# Altium footprint library Supernova Power.PcbLib: 51 footprints (part 3 of 4)
Each footprint in its own frame and in the unit in brackets; x right, y up, seen from the top. Pads: shape width x height; smd on the part's side, far side on the other; paste and mask are expansions set on the pad; w line width, h text height; cw(c..) or ccw(c..) is an arc to the next point about the centre after c.
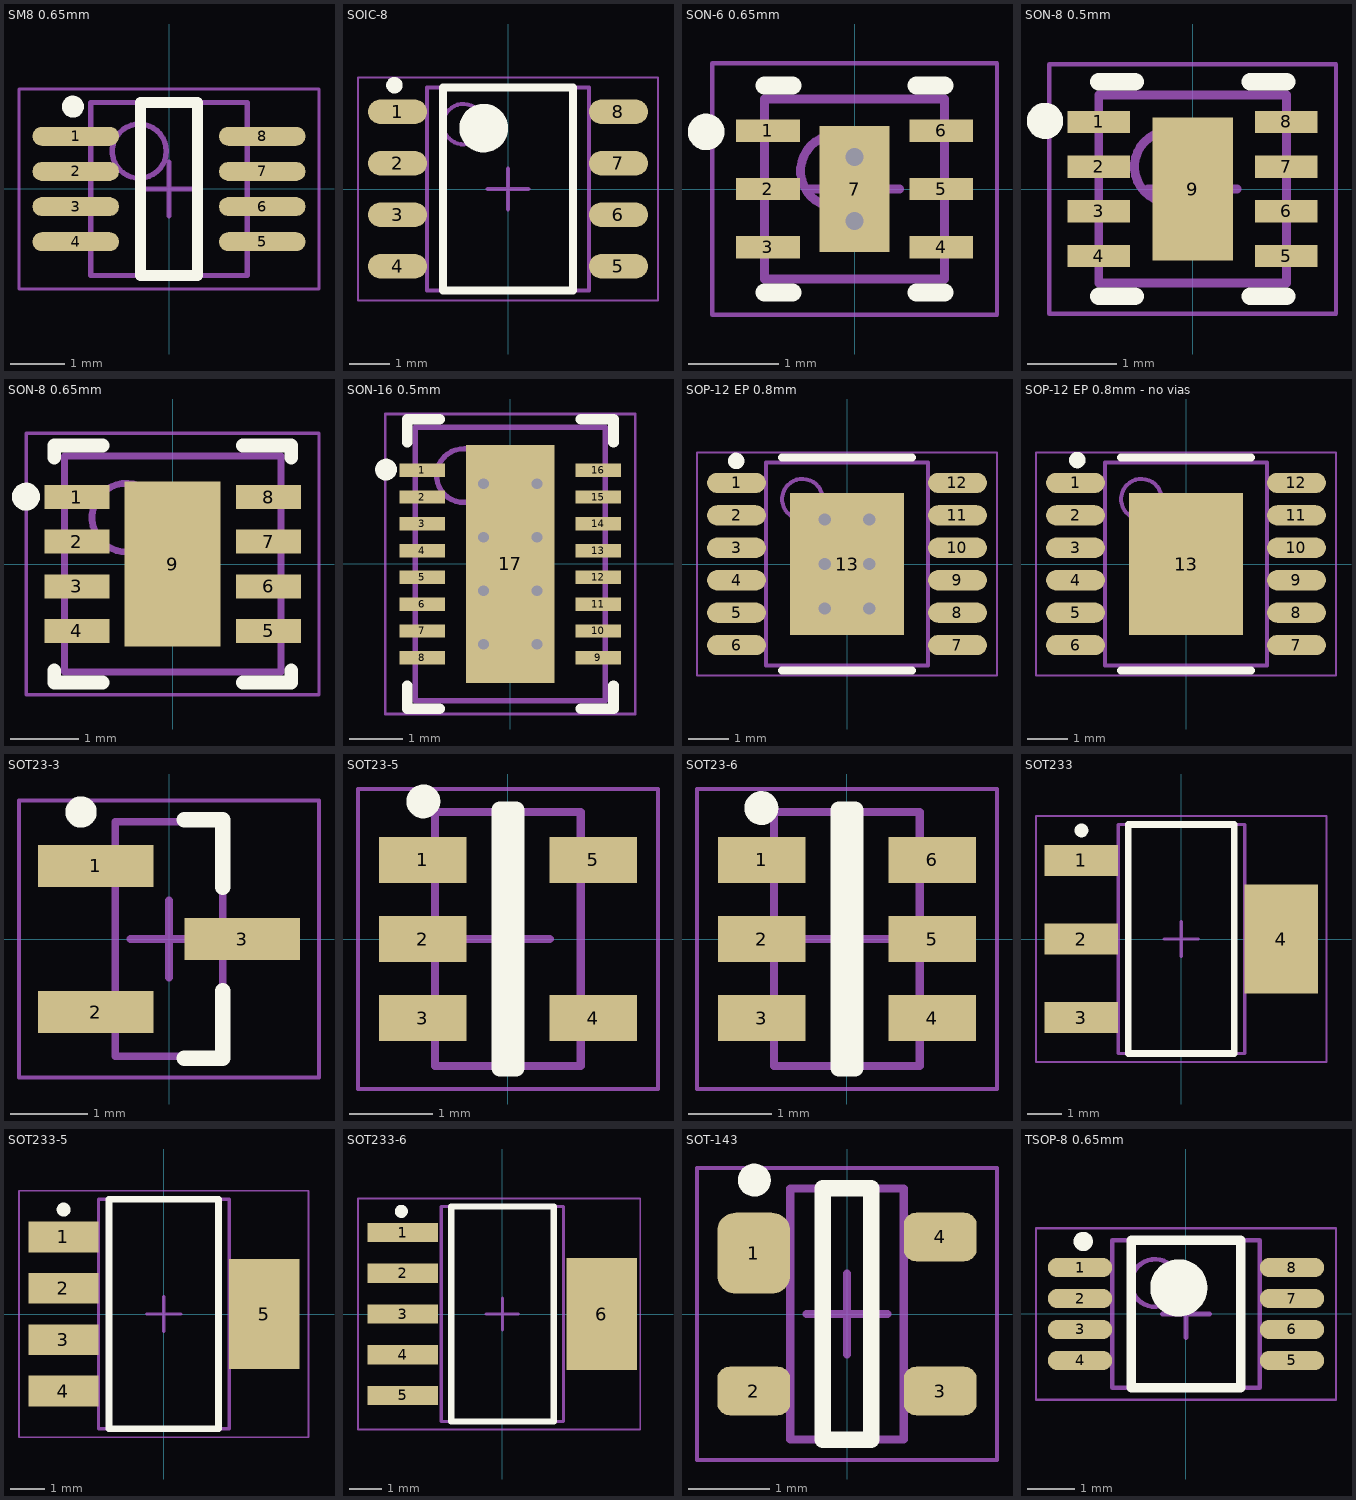
[diagram p2: the footprints below, top view; thin cyan lines are the x and y axes]

## SM8 0.65mm [mm] "TSOP, 8-Leads, Body 2.95x2.80mm, Pitch 0.65mm, IPC Medium Density"
height 1.3
pads (8):
  oval 1.6x0.35 smd mask+0.013: 1(-1.725,0.975) 2(-1.725,0.325) 3(-1.725,-0.325) 4(-1.725,-0.975) 5(1.725,-0.975) 6(1.725,-0.325) 7(1.725,0.325) 8(1.725,0.975)
Top Overlay:
  circle w0.203: c-1.778,1.524 r0.102
  lines w0.2: -0.525,-1.6 -0.525,1.6 0.525,1.6 0.525,-1.6 -0.525,-1.6
Top 3D Body (Mech13):
  circle w0.1: c-0.55,0.7 r0.5
  lines w0.1: -1.45,-1.6 -1.45,1.6 1.45,1.6 1.45,-1.6 -1.45,-1.6
Top Courtyard:
  lines w0.05: -2.775,-1.85 -2.775,1.85 2.775,1.85 2.775,-1.85 -2.775,-1.85
  lines w0.1: -0.5,0 0.5,0 ; 0,-0.5 0,0.5
3D body: height 0.2, standoff 0, extent -2.032,0.147 2.032,0.484
3D body: height 0.2, standoff 0, extent -2.032,-0.484 2.032,-0.147
3D body: height 0.2, standoff 0, extent -2.032,-1.135 2.032,-0.797
3D body: height 0.2, standoff 0, extent -2.032,0.797 2.032,1.134
3D body: height 1.3, standoff 0, extent -1.45,-1.6 1.45,1.6

## SOIC-8 [mm] "SOIC, 8-Leads, Body 4.90x3.90mm, Pitch 1.27mm, IPC Medium Density"
height 1.75
pads (8):
  oval 1.45x0.6 smd: 1(-2.725,1.905) 2(-2.725,0.635) 3(-2.725,-0.635) 4(-2.725,-1.905) 5(2.725,-1.905) 6(2.725,-0.635) 7(2.725,0.635) 8(2.725,1.905)
Top Overlay:
  circle w0.203: c-2.801,2.56 r0.102
  circle w0.6: c-0.6,1.5 r0.3
  lines w0.2: -1.6,-2.5 1.6,-2.5 1.6,2.5 -1.6,2.5 -1.6,-2.5
Top 3D Body (Mech13):
  circle w0.1: c-1.1,1.6 r0.5
  lines w0.1: -2,-2.5 2,-2.5 2,2.5 -2,2.5 -2,-2.5
Top Courtyard:
  lines w0.05: -3.7,-2.75 3.7,-2.75 3.7,2.75 -3.7,2.75 -3.7,-2.75
  lines w0.1: -0.5,0 0.5,0 ; 0,-0.5 0,0.5
3D body: height 1.75, standoff 0.1, extent -2,-2.5 2,2.5
3D body: height 0.2, standoff 0, extent -3,1.725 3,2.1
3D body: height 0.2, standoff 0, extent -3,0.45 3,0.825
3D body: height 0.2, standoff 0, extent -3,-0.825 3,-0.45
3D body: height 0.2, standoff 0, extent -3,-2.1 3,-1.725

## SON-6 0.65mm [mm] "SON, 6-Leads, Body 2.00x2.00mm, Pitch 0.65mm, Thermal Pad 1.40x0.78mm, IPC Medium Density"
height 0.9
pads (7):
  rect 0.711x0.25 smd mask+0.025: 1(-0.965,0.65) 2(-0.965,0) 3(-0.965,-0.65) 4(0.965,-0.65) 5(0.965,0) 6(0.965,0.65)
  rect 0.78x1.4 smd paste-0.39 mask+0.025: 7(0,0)
via 0,0.356 diameter 0.5 hole 0.2
via 0,-0.356 diameter 0.5 hole 0.2
Top Overlay:
  circle w0.203: c-1.651,0.635 r0.102
  lines w0.2: -1,-1.15 -0.69,-1.15 ; -1,1.15 -0.69,1.15 ; 0.69,-1.15 1,-1.15 ; 0.69,1.15 1,1.15
Top 3D Body (Mech13):
  circle w0.1: c-0.2,0.2 r0.4
  lines w0.1: -1,-1 -1,1 1,1 1,-1 -1,-1
Top Courtyard:
  lines w0.05: -1.585,-1.397 -1.585,1.397 1.585,1.397 1.585,-1.397 -1.585,-1.397
  lines w0.1: -0.5,0 0.5,0 ; 0,-0.5 0,0.5
3D body: height 0.9, standoff 0, extent -1,-1 1,1

## SON-8 0.5mm [mm] "SON, 8-Leads, Body 2.00x2.00mm, Pitch 0.50mm, Thermal Pad 1.60x0.69mm, IPC Medium Density"
height 0.8
pads (9):
  rect 0.7x0.25 smd mask+0.025: 1(-1.05,0.75) 2(-1.05,0.25) 3(-1.05,-0.25) 4(-1.05,-0.75) 5(1.05,-0.75) 6(1.05,-0.25) 7(1.05,0.25) 8(1.05,0.75)
  rect 0.9x1.6 smd mask+0.025: 9(0,0)
Top Overlay:
  circle w0.203: c-1.651,0.762 r0.102
  lines w0.2: -1.05,-1.2 -0.645,-1.2 ; -1.05,1.2 -0.645,1.2 ; 0.645,-1.2 1.05,-1.2 ; 0.645,1.2 1.05,1.2
Top 3D Body (Mech13):
  circle w0.1: c-0.25,0.25 r0.4
  lines w0.1: -1.05,-1.05 -1.05,1.05 1.05,1.05 1.05,-1.05 -1.05,-1.05
Top Courtyard:
  lines w0.05: -1.605,-1.397 -1.605,1.397 1.605,1.397 1.605,-1.397 -1.605,-1.397
  lines w0.1: -0.5,0 0.5,0 ; 0,-0.5 0,0.5
3D body: height 0.8, standoff 0, extent -1.05,-1.05 1.05,1.05

## SON-8 0.65mm [mm] "SON, 8-Leads, Body 3.00x3.00mm, Pitch 0.65mm, Thermal Pad 2.40x1.44mm, IPC Medium Density"
height 1
pads (9):
  rect 0.95x0.35 smd mask+0.013: 1(-1.395,0.975) 2(-1.395,0.325) 3(-1.395,-0.325) 4(-1.395,-0.975) 5(1.395,-0.975) 6(1.395,-0.325) 7(1.395,0.325) 8(1.395,0.975)
  rect 1.397x2.4 smd paste-2 mask+0.013: 9(0,0)
Top Overlay:
  circle w0.203: c-2.137,0.981 r0.102
  lines w0.2: -1.725,-1.55 -1.725,-1.725 -1.02,-1.725 ; -1.725,1.55 -1.725,1.725 -1.02,1.725 ; 1.02,-1.725 1.725,-1.725 1.725,-1.55 ; 1.02,1.725 1.725,1.725 1.725,1.55
Top Paste:
  region: -0.1,-0.125 -0.675,-0.125 -0.675,-1.125 -0.1,-1.125
  rectangle: 0.1,0.125 0.675,1.125
  region: -0.1,1.125 -0.675,1.125 -0.675,0.125 -0.1,0.125
  rectangle: 0.1,-1.125 0.675,-0.125
Top 3D Body (Mech13):
  circle w0.1: c-0.675,0.675 r0.5
  lines w0.1: -1.575,-1.575 -1.575,1.575 1.575,1.575 1.575,-1.575 -1.575,-1.575
Top Courtyard:
  lines w0.05: -2.13,-1.905 -2.13,1.905 2.13,1.905 2.13,-1.905 -2.13,-1.905
  lines w0.1: -0.5,0 0.5,0 ; 0,-0.5 0,0.5
3D body: height 1, standoff 0.1, extent -1.575,-1.575 1.575,1.575

## SON-16 0.5mm [mm] "SON, 16-Leads, Body 5.00x3.50mm, Pitch 0.50mm, Thermal Pad 4.45x1.65mm, IPC Medium Density"
height 0.8
pads (17):
  rect 0.85x0.25 smd mask+0.025: 1(-1.645,1.75) 2(-1.645,1.25) 3(-1.645,0.75) 4(-1.645,0.25) 5(-1.645,-0.25) 6(-1.645,-0.75) 7(-1.645,-1.25) 8(-1.645,-1.75) 9(1.645,-1.75) 10(1.645,-1.25) 11(1.645,-0.75) 12(1.645,-0.25) 13(1.645,0.25) 14(1.645,0.75) 15(1.645,1.25) 16(1.645,1.75)
  rect 1.65x4.45 smd: 17(0,0)
via -0.5,1.5 diameter 0.5 hole 0.2
via 0.5,1.5 diameter 0.5 hole 0.2
via -0.5,0.5 diameter 0.5 hole 0.2
via 0.5,0.5 diameter 0.5 hole 0.2
via -0.5,-0.5 diameter 0.5 hole 0.2
via 0.5,-0.5 diameter 0.5 hole 0.2
via -0.5,-1.5 diameter 0.5 hole 0.2
via 0.5,-1.5 diameter 0.5 hole 0.2
Top Overlay:
  circle w0.203: c-2.32,1.762 r0.102
  lines w0.2: -1.925,-2.275 -1.925,-2.7 -1.32,-2.7 ; -1.925,2.275 -1.925,2.7 -1.32,2.7 ; 1.32,-2.7 1.925,-2.7 1.925,-2.275 ; 1.32,2.7 1.925,2.7 1.925,2.275
Top 3D Body (Mech13):
  circle w0.1: c-0.875,1.65 r0.5
  lines w0.1: -1.775,-2.55 -1.775,2.55 1.775,2.55 1.775,-2.55 -1.775,-2.55
Top Courtyard:
  lines w0.05: -2.335,-2.8 -2.335,2.8 2.335,2.8 2.335,-2.8 -2.335,-2.8
  lines w0.1: -0.5,0 0.5,0 ; 0,-0.5 0,0.5
3D body: height 0.8, standoff 0, extent -1.775,-2.55 1.775,2.55

## SOP-12 EP 0.8mm [mm] "SOP, 12-Leads, Body 4.90x3.90mm, Pitch 0.80mm, Thermal Pad 3.50x2.80mm, IPC Medium Density"
height 1.7
pads (13):
  oval 1.45x0.5 smd mask+0.025: 1(-2.725,2) 2(-2.725,1.2) 3(-2.725,0.4) 4(-2.725,-0.4) 5(-2.725,-1.2) 6(-2.725,-2) 7(2.725,-2) 8(2.725,-1.2) 9(2.725,-0.4) 10(2.725,0.4) 11(2.725,1.2) 12(2.725,2)
  rect 2.8x3.5 smd: 13(0,0)
via -0.55,1.1 diameter 0.5 hole 0.3
via 0.55,1.1 diameter 0.5 hole 0.3
via -0.55,0 diameter 0.5 hole 0.3
via 0.55,0 diameter 0.5 hole 0.3
via -0.55,-1.1 diameter 0.5 hole 0.3
via 0.55,-1.1 diameter 0.5 hole 0.3
Top Overlay:
  circle w0.203: c-2.734,2.542 r0.102
  lines w0.2: -1.6,-2.627 1.6,-2.627 ; -1.6,2.627 1.6,2.627
Top 3D Body (Mech13):
  circle w0.1: c-1.1,1.6 r0.5
  lines w0.1: -2,-2.5 -2,2.5 2,2.5 2,-2.5 -2,-2.5
Top Courtyard:
  lines w0.05: -3.7,-2.75 -3.7,2.75 3.7,2.75 3.7,-2.75 -3.7,-2.75
  lines w0.1: -0.5,0 0.5,0 ; 0,-0.5 0,0.5
3D body: height 0.38, standoff 0, extent -3.048,-2.146 3.048,-1.841
3D body: height 0.38, standoff 0, extent -3.048,-1.346 3.048,-1.041
3D body: height 0.38, standoff 0, extent -3.048,-0.546 3.048,-0.241
3D body: height 0.38, standoff 0, extent -3.048,0.254 3.048,0.559
3D body: height 0.38, standoff 0, extent -3.048,1.054 3.048,1.359
3D body: height 1.7, standoff 0, extent -2,-2.5 2,2.5
3D body: height 0.38, standoff 0, extent -3.048,1.854 3.048,2.159

## SOP-12 EP 0.8mm - no vias [mm] "SOP, 12-Leads, Body 4.90x3.90mm, Pitch 0.80mm, Thermal Pad 3.50x2.80mm, IPC Medium Density"
height 1.7
pads (13):
  oval 1.45x0.5 smd mask+0.025: 1(-2.725,2) 2(-2.725,1.2) 3(-2.725,0.4) 4(-2.725,-0.4) 5(-2.725,-1.2) 6(-2.725,-2) 7(2.725,-2) 8(2.725,-1.2) 9(2.725,-0.4) 10(2.725,0.4) 11(2.725,1.2) 12(2.725,2)
  rect 2.8x3.5 smd: 13(0,0)
Top Overlay:
  circle w0.203: c-2.68,2.565 r0.102
  lines w0.2: -1.6,-2.627 1.6,-2.627 ; -1.6,2.627 1.6,2.627
Top 3D Body (Mech13):
  circle w0.1: c-1.1,1.6 r0.5
  lines w0.1: -2,-2.5 -2,2.5 2,2.5 2,-2.5 -2,-2.5
Top Courtyard:
  lines w0.05: -3.7,-2.75 -3.7,2.75 3.7,2.75 3.7,-2.75 -3.7,-2.75
  lines w0.1: -0.5,0 0.5,0 ; 0,-0.5 0,0.5
3D body: height 1.7, standoff 0, extent -2,-2.5 2,2.5
3D body: height 0.38, standoff 0, extent -3.048,1.854 3.048,2.159
3D body: height 0.38, standoff 0, extent -3.048,1.054 3.048,1.359
3D body: height 0.38, standoff 0, extent -3.048,0.254 3.048,0.559
3D body: height 0.38, standoff 0, extent -3.048,-0.546 3.048,-0.241
3D body: height 0.38, standoff 0, extent -3.048,-1.346 3.048,-1.041
3D body: height 0.38, standoff 0, extent -3.048,-2.146 3.048,-1.841

## SOT23-3 [mm] "SOT23, 3-Leads, Body 2.90x2.45mm, Pitch 0.95mm, IPC Medium Density"
height 1.45
pads (3):
  rect 1.5x0.55 smd: 1(-0.95,0.95) 2(-0.95,-0.95) 3(0.95,0)
Top Overlay:
  circle w0.203: c-1.143,1.651 r0.102
  lines w0.2: 0.2,-1.55 0.7,-1.55 0.7,-0.675 ; 0.2,1.55 0.7,1.55 0.7,0.675
Top 3D Body (Mech13):
  lines w0.1: -0.7,-1.525 -0.7,1.525 0.7,1.525 0.7,-1.525 -0.7,-1.525
Top Courtyard:
  lines w0.05: -1.95,-1.8 1.95,-1.8 1.95,1.8 -1.95,1.8 -1.95,-1.8
  lines w0.1: -0.5,0 0.5,0 ; 0,-0.5 0,0.5
3D body "CircuitWorks-SOT-23.step": height 1.1, standoff 0, extent -1.25,-1.5 1.25,1.5

## SOT23-5 [mm] "SOT23, 5-Leads, Body 2.90x2.45mm, Pitch 0.95mm, IPC Medium Density"
height 1.45
pads (5):
  rect 1.05x0.55 smd: 1(-1.025,0.95) 2(-1.025,0) 3(-1.025,-0.95) 4(1.025,-0.95) 5(1.025,0.95)
Top Overlay:
  circle w0.203: c-1.016,1.651 r0.102
  lines w0.2: -0.1,-1.55 -0.1,1.55 0.1,1.55 0.1,-1.55 -0.1,-1.55
Top 3D Body (Mech13):
  lines w0.1: -0.875,-1.525 0.875,-1.525 0.875,1.525 -0.875,1.525 -0.875,-1.525
Top Courtyard:
  lines w0.05: -1.8,-1.8 1.8,-1.8 1.8,1.8 -1.8,1.8 -1.8,-1.8
  lines w0.1: -0.5,0 0.5,0 ; 0,-0.5 0,0.5
3D body: height 1.45, standoff 0, extent -0.875,-1.525 0.875,1.525
3D body: height 0.2, standoff 0, extent -1.3,0.75 1.3,1.15
3D body: height 0.2, standoff 0, extent -1.3,-0.2 0.1,0.2
3D body: height 0.2, standoff 0, extent -1.3,-1.15 1.3,-0.75

## SOT23-6 [mm] "SOT23, 6-Leads, Body 2.90x2.45mm, Pitch 0.95mm, IPC Medium Density"
height 1.45
pads (6):
  rect 1.05x0.55 smd: 1(-1.025,0.95) 2(-1.025,0) 3(-1.025,-0.95) 4(1.025,-0.95) 5(1.025,0) 6(1.025,0.95)
Top Overlay:
  circle w0.203: c-1.028,1.571 r0.102
  lines w0.2: -0.1,-1.55 0.1,-1.55 0.1,1.55 -0.1,1.55 -0.1,-1.55
Top 3D Body (Mech13):
  lines w0.1: -0.875,-1.525 -0.875,1.525 0.875,1.525 0.875,-1.525 -0.875,-1.525
Top Courtyard:
  lines w0.05: -1.8,-1.8 -1.8,1.8 1.8,1.8 1.8,-1.8 -1.8,-1.8
  lines w0.1: -0.5,0 0.5,0 ; 0,-0.5 0,0.5
3D body: height 0.2, standoff 0, extent -1.3,-1.15 1.3,-0.75
3D body: height 0.2, standoff 0, extent -1.3,-0.2 1.3,0.2
3D body: height 0.2, standoff 0, extent -1.3,0.75 1.3,1.15
3D body: height 1.45, standoff 0, extent -0.875,-1.525 0.875,1.525

## SOT233 [mm] "SOT223, 4-Leads, Body 6.45x7.00mm (avg), Pitch 2.30mm, IPC Medium Density"
height 1.8
pads (4):
  rect 2.15x0.9 smd: 1(-2.925,2.3) 2(-2.925,0) 3(-2.925,-2.3)
  rect 2.15x3.2 smd paste-0.2: 4(2.925,0)
Top Overlay:
  circle w0.203: c-2.921,3.175 r0.102
  lines w0.2: -1.55,-3.35 1.55,-3.35 1.55,3.35 -1.55,3.35 -1.55,-3.35
Top 3D Body (Mech13):
  lines w0.1: -1.85,-3.35 1.85,-3.35 1.85,3.35 -1.85,3.35 -1.85,-3.35
Top Courtyard:
  lines w0.05: -4.25,-3.6 4.25,-3.6 4.25,3.6 -4.25,3.6 -4.25,-3.6
  lines w0.1: -0.5,0 0.5,0 ; 0,-0.5 0,0.5
3D body: height 1.8, standoff 0.02, extent -1.85,-3.35 1.85,3.35
3D body: height 0.3, standoff 0, extent -3.5,2 -0.9,2.6
3D body: height 0.3, standoff 0, extent -3.5,-0.3 -0.9,0.3
3D body: height 0.3, standoff 0, extent -3.5,-2.6 -0.9,-2
3D body: height 0.3, standoff 0, extent 0.9,-1.375 3.5,1.45

## SOT233-5 [mm] "SOT223, 5-Leads, Body 6.50x6.92mm (avg), Pitch 1.50mm, IPC Medium Density"
height 1.8
pads (5):
  rect 2.05x0.9 smd: 1(-2.93,2.25) 2(-2.93,0.75) 3(-2.93,-0.75) 4(-2.93,-2.25)
  rect 2.05x3.2 smd: 5(2.93,0)
Top Overlay:
  circle w0.203: c-2.921,3.048 r0.102
  lines w0.2: -1.6,-3.35 -1.6,3.35 1.6,3.35 1.6,-3.35 -1.6,-3.35
Top 3D Body (Mech13):
  lines w0.1: -1.905,-3.35 -1.905,3.35 1.905,3.35 1.905,-3.35 -1.905,-3.35
Top Courtyard:
  lines w0.05: -4.225,-3.6 -4.225,3.6 4.225,3.6 4.225,-3.6 -4.225,-3.6
  lines w0.1: -0.5,0 0.5,0 ; 0,-0.5 0,0.5
3D body: height 0.3, standoff 0, extent -3.5,-1.076 -0.9,-0.476
3D body: height 0.3, standoff 0, extent 0.9,-1.375 3.5,1.45
3D body: height 0.3, standoff 0, extent -3.5,-2.575 -0.9,-1.975
3D body: height 0.3, standoff 0, extent -3.5,0.437 -0.9,1.037
3D body: height 0.3, standoff 0, extent -3.5,1.975 -0.9,2.575
3D body: height 1.8, standoff 0.02, extent -1.905,-3.35 1.905,3.35

## SOT233-6 [mm] "SOT223, 6-Leads, Body 6.50x6.92mm (avg), Pitch 1.50mm, IPC Medium Density"
height 1.8
pads (6):
  rect 2.2x0.6 smd: 1(-3.1,2.54) 2(-3.1,1.27) 3(-3.1,0) 4(-3.1,-1.27) 5(-3.1,-2.54)
  rect 2.2x3.5 smd paste-0.05 mask-0.025: 6(3.1,0)
Top Overlay:
  circle w0.203: c-3.15,3.199 r0.102
  lines w0.2: -1.6,-3.35 1.6,-3.35 1.6,3.35 -1.6,3.35 -1.6,-3.35
Top 3D Body (Mech13):
  lines w0.1: -1.905,-3.35 1.905,-3.35 1.905,3.35 -1.905,3.35 -1.905,-3.35
Top Courtyard:
  lines w0.05: -4.5,-3.6 4.3,-3.6 4.3,3.6 -4.5,3.6 -4.5,-3.6
  lines w0.1: -0.5,0 0.5,0 ; 0,-0.5 0,0.5
3D body: height 0.3, standoff 0, extent -3.5,-2.865 -0.9,-2.265
3D body: height 0.3, standoff 0, extent -3.5,-1.595 -0.9,-0.995
3D body: height 0.3, standoff 0, extent -3.5,-0.325 -0.9,0.275
3D body: height 0.3, standoff 0, extent -3.5,0.945 -0.9,1.545
3D body: height 0.3, standoff 0, extent -3.5,2.215 -0.9,2.815
3D body: height 1.8, standoff 0.02, extent -1.905,-3.35 1.905,3.35
3D body: height 0.3, standoff 0, extent 0.9,-1.375 3.5,1.45

## SOT-143 [mm] "TSOP, 4-Leads, Body 2.86x1.30mm, Pitch 1.90mm, IPC Medium Density"
height 1.12
pads (4):
  rrect50% 0.9x1 smd: 1(-1.15,0.75)
  rrect50% 0.9x0.6 smd: 2(-1.15,-0.95) 3(1.15,-0.95) 4(1.15,0.95)
Top Overlay:
  circle w0.203: c-1.143,1.651 r0.102
  lines w0.2: -0.3,-1.55 0.3,-1.55 0.3,1.55 -0.3,1.55 -0.3,-1.55
Top 3D Body (Mech13):
  lines w0.1: -0.7,-1.55 0.7,-1.55 0.7,1.55 -0.7,1.55 -0.7,-1.55
Top Courtyard:
  lines w0.05: -1.85,-1.8 1.85,-1.8 1.85,1.8 -1.85,1.8 -1.85,-1.8
  lines w0.1: -0.5,0 0.5,0 ; 0,-0.5 0,0.5
3D body: height 0.2, standoff 0, extent -1.375,0.4 0.075,1.1
3D body: height 0.2, standoff 0, extent -1.275,-1.1 1.375,-0.8
3D body: height 0.2, standoff 0, extent 0.2,0.8 1.375,1.1
3D body: height 1.12, standoff 0.01, extent -0.7,-1.55 0.7,1.55

## TSOP-8 0.65mm [mm] "TSOP, 8-Leads, Body 3.00x3.00mm, Pitch 0.65mm, IPC Medium Density"
height 1.1
pads (8):
  oval 1.35x0.406 smd mask+0.025: 1(-2.225,0.975) 2(-2.225,0.325) 3(-2.225,-0.325) 4(-2.225,-0.975) 5(2.225,-0.975) 6(2.225,-0.325) 7(2.225,0.325) 8(2.225,0.975)
Top Overlay:
  circle w0.203: c-2.159,1.524 r0.102
  circle w0.6: c-0.15,0.55 r0.3
  lines w0.2: -1.15,-1.55 -1.15,1.55 1.15,1.55 1.15,-1.55 -1.15,-1.55
Top 3D Body (Mech13):
  circle w0.1: c-0.65,0.65 r0.5
  lines w0.1: -1.55,-1.55 -1.55,1.55 1.55,1.55 1.55,-1.55 -1.55,-1.55
Top Courtyard:
  lines w0.05: -3.15,-1.8 -3.15,1.8 3.15,1.8 3.15,-1.8 -3.15,-1.8
  lines w0.1: -0.5,0 0.5,0 ; 0,-0.5 0,0.5
3D body: height 0.2, standoff 0, extent -2.375,-1.15 2.464,-0.8
3D body: height 0.2, standoff 0, extent -2.375,-0.5 2.464,-0.15
3D body: height 0.2, standoff 0, extent -2.375,0.15 2.464,0.5
3D body: height 0.2, standoff 0, extent -2.375,0.8 2.464,1.15
3D body: height 1.1, standoff 0.05, extent -1.55,-1.55 1.55,1.55